# Altium schematic symbol library Mixer.SchLib: 44 symbols
Pins are listed as number, name and electrical type; pins without a type are passive.

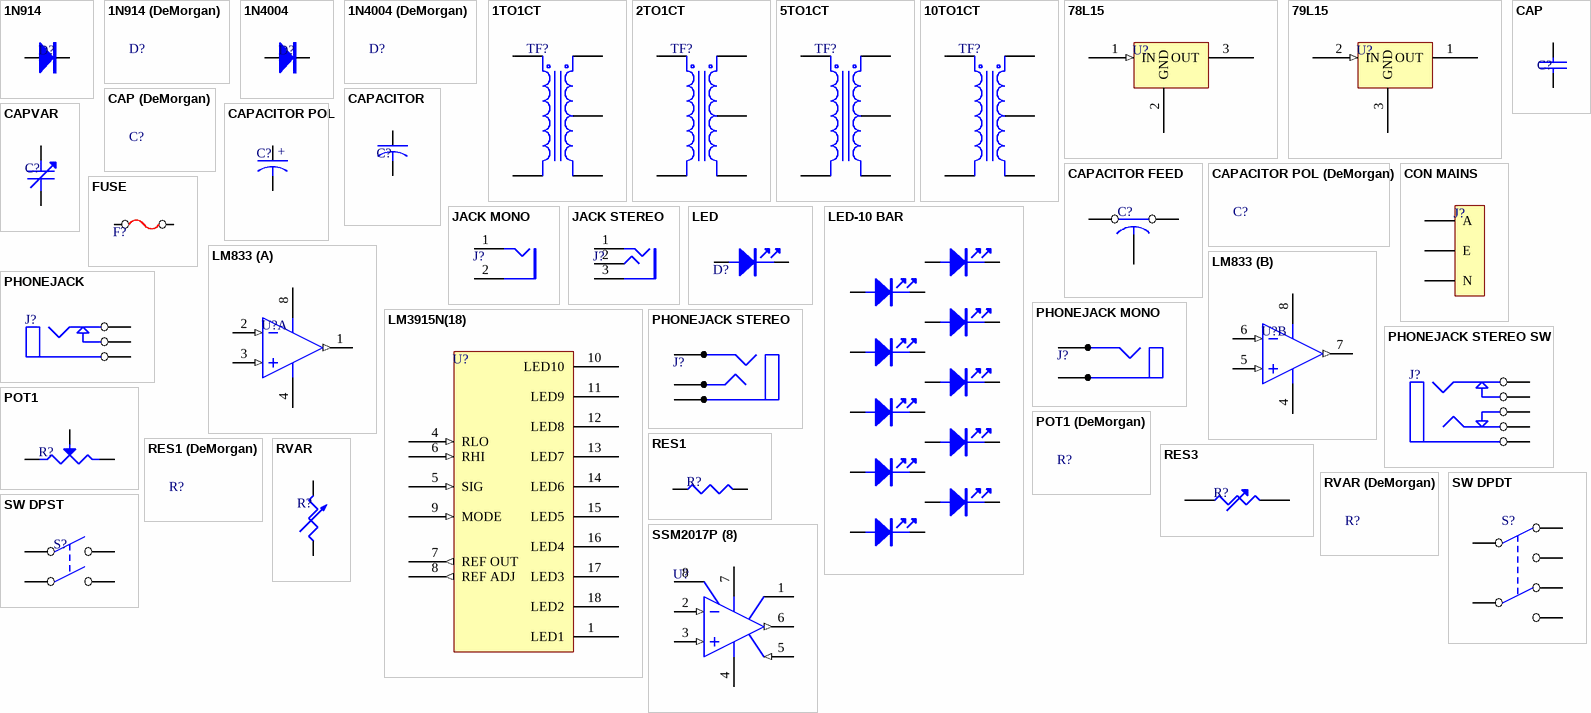
[diagram p0: symbols 1N914 to SW DPST]

## 1N914
designator D?
Diode
footprint DIODE0.4
footprint DIODE0.5
simulation model 1N914 (DIODE)
pins: 1 A, 2 K

## 1N914 (DeMorgan)
designator D?
Diode
footprint DIODE0.4
footprint DIODE0.5
simulation model 1N914 (DeMorgan) (DIODE)

## 1N4004
designator D?
Diode
footprint DIODE0.5
simulation model 1N4004 (DIODE)
pins: 1 A, 2 K

## 1N4004 (DeMorgan)
designator D?
Diode
footprint DIODE0.5
simulation model 1N4004 (DeMorgan) (DIODE)

## 1TO1CT
designator TF?
Center-Tapped Transformer
footprint TRANSFORMER
simulation model 1TO1CT (SUBCKT)
pins: 1 Pri+, 2 Pri-, 3 Sec+, 4 SecCT, 5 Sec-

## 2TO1CT
designator TF?
Center-Tapped Transformer
footprint TRANSFORMER
simulation model 2TO1CT (SUBCKT)
pins: 1 Pri+, 2 Pri-, 3 Sec+, 4 SecCT, 5 Sec-

## 5TO1CT
designator TF?
Center-Tapped Transformer
footprint TRANSFORMER
simulation model 5TO1CT (SUBCKT)
pins: 1 Pri+, 2 Pri-, 3 Sec+, 4 SecCT, 5 Sec-

## 10TO1CT
designator TF?
Center-Tapped Transformer
footprint TRANSFORMER
simulation model 10TO1CT (SUBCKT)
pins: 1 Pri+, 2 Pri-, 3 Sec+, 4 SecCT, 5 Sec-

## 78L15
designator U?
Very Low Drop Voltage Regulators With Inhibit
footprint TO-92A
footprint TO-220
pins: 1 IN (in), 2 GND (power), 3 OUT (power)

## 79L15
designator U?
Very Low Drop Voltage Regulators With Inhibit
footprint TO-92A
footprint TO-220
pins: 1 OUT (power), 2 IN (in), 3 GND (power)

## CAP
designator C?
Capacitor
footprint RAD0.2
footprint RAD0.8
footprint RB.2/.4-NP
simulation model CAP
pins: 1, 2

## CAP (DeMorgan)
designator C?
Capacitor
footprint RAD0.2
footprint RAD0.8
footprint RB.2/.4-NP
simulation model CAP

## CAPACITOR
designator C?
Capacitor
pins: 1, 2

## CAPACITOR FEED
designator C?
Feed-Through Capacitor
pins: 1, 2, 3

## CAPACITOR POL
designator C?
Bi-Polar Capacitor
footprint RB.2/.4
footprint RB.4/.8
simulation model CAP
pins: 1, 2
text: +

## CAPACITOR POL (DeMorgan)
designator C?
Bi-Polar Capacitor
footprint RB.2/.4
footprint RB.4/.8
simulation model CAP

## CAPVAR
designator C?
Variable Capacitor
pins: 1, 2

## CON MAINS
designator J?
Connector
footprint IEC-MAINS
pins: 1 A, 2 E, 3 N

## FUSE
designator F?
Fuse
footprint FUSE
simulation model FUSE (SUBCKT)
pins: 1, 2

## JACK MONO
designator J?
XLR connector, PCB mounted
footprint XLR-FEMALE
pins: 1, 2

## JACK STEREO
designator J?
XLR connector, PCB mounted
footprint XLR-FEMALE
pins: 1, 2, 3

## LED
designator D?
pins: A 1, K 2

## LED-10 BAR
designator ?
footprint LED - 10 BAR HORIZONTAL
pins: 1 A, 2 K, 3 A, 4 K, 5 A, 6 K, 7 A, 8 K, 9 A, 10 K, 11 A, 12 K, 13 A, 14 K, 15 A, 16 K, 17 A, 18 K, 19 A, 20 K

## LM833
designator U?
Fast Settling Dual Operational Amplifier
footprint DIP8
simulation model LM833 (SUBCKT)
pins on every part: 4 V- (power), 8 V+ (power)
part A pins: 1 OUT1 (out), 2 IN1- (in), 3 IN1+ (in)
part B pins: 5 IN2+ (in), 6 IN2- (in), 7 OUT2 (out)

## LM3915N(18)
designator U?
Dot/Bar Display Driver
footprint DIP18
pins: 1 LED1 (oc), 2 V- (power) hidden, 3 V+ (power) hidden, 4 RLO (in), 5 SIG (in), 6 RHI (in), 7 REF OUT (out), 8 REF ADJ (out), 9 MODE (in), 10 LED10 (oc), 11 LED9 (oc), 12 LED8 (oc), 13 LED7 (oc), 14 LED6 (oc), 15 LED5 (oc), 16 LED4 (oc), 17 LED3 (oc), 18 LED2 (oc)

## PHONEJACK
designator J?
pins: 1 A, 2 B, 3 C

## PHONEJACK MONO
designator J?
footprint JACK-6.25MM
pins: 1 A, 3 C

## PHONEJACK STEREO
designator J?
footprint JACK-6.25MM
pins: 1 A, 2 B, 3 C

## PHONEJACK STEREO SW
designator J?
pins: 1 A, 2 B, 3 C, 4 D, 5 E

## POT1
designator R?
Potentiometer
footprint POT - 24MM
simulation model POT
pins: 1, 2 W, 3

## POT1 (DeMorgan)
designator R?
Potentiometer
footprint POT - 24MM
simulation model POT

## RES1
designator R?
Resistor
footprint AXIAL0.4
simulation model RESISTOR
pins: 1, 2

## RES1 (DeMorgan)
designator R?
Resistor
footprint AXIAL0.4
simulation model RESISTOR

## RES3
designator R?
pins: 1, 2

## RVAR
designator R?
Variable Resistor
simulation model VRES
pins: 1 TOP, 2 BOT

## RVAR (DeMorgan)
designator R?
Variable Resistor
simulation model VRES

## SSM2017P (8)
designator U?
Self-Contained Audio Preamplifier
footprint DIP8
pins: 1 RG1, 2 IN- (in), 3 IN+ (in), 4 V- (power), 5 REF (in), 6 OUT (out), 7 V+ (power), 8 RG2

## SW DPDT
designator S?
pins: 1 COMMON1, 2 NC1, 3 NO1, 4 NC2, 5 COMMON2, 6 NO2

## SW DPST
designator S?
pins: 1 COMMON1, 2 NO1, 3 COMMON2, 4 NO2

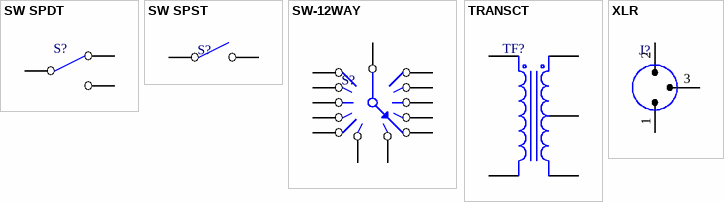
[diagram p1: symbols SW SPDT to XLR]

## SW SPDT
designator S?
footprint SW-SPDT
pins: 1 COMMON, 2 NC, 3 NO

## SW SPST
designator S?
pins: 1 COMMON, 2 NO

## SW-12WAY
designator S?
footprint SW-12WAY
pins: 1, 2, 3, 4, 5, 6, 7, 8, 9, 10, 11, 12, 13

## TRANSCT
designator TF?
Center-Tapped Transformer
footprint TRANSFORMER
simulation model TRANSCT (SUBCKT)
pins: 1 Pri+, 2 Pri-, 3 Sec+, 4 SecCT, 5 Sec-

## XLR
designator J?
XLR connector, PCB mounted
footprint XLR-FEMALE
footprint XLR-MALE
pins: 1, 2, 3